# EAGLE library part LPC82XMX01JHI33 (library heck)
LPC824M201JHI33 - 32KB flash, 8KB SRAM LPC822M101JHI33 - 16KB flash, 4KB SRAM
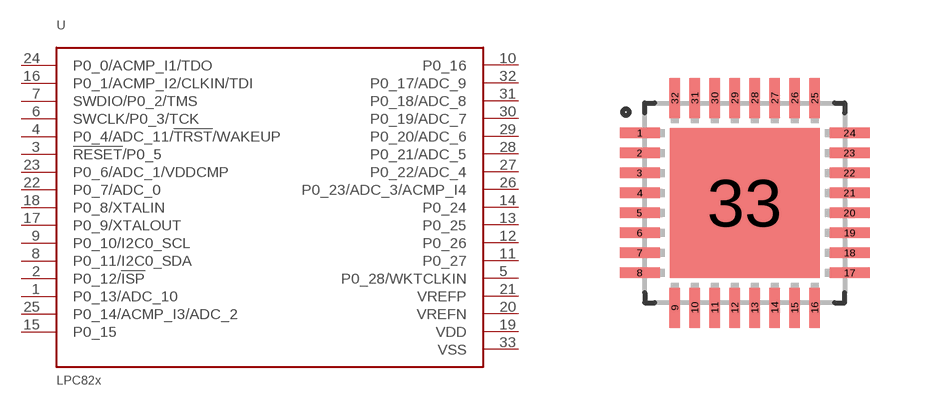
[diagram p18: symbol with the pads of QFN33; footprint QFN33]

Designator prefix U

## LPC82XMX01JHI33  [QFN33]
1  P0_13/ADC_10
2  P0_12/!ISP!
3  !RESET!/P0_5
4  P0_4/ADC_11/!TRST!/WAKEUP
5  P0_28/WKTCLKIN
6  SWCLK/P0_3/TCK
7  SWDIO/P0_2/TMS
8  P0_11/I2C0_SDA
9  P0_10/I2C0_SCL
10  P0_16
11  P0_27
12  P0_26
13  P0_25
14  P0_24
15  P0_15
16  P0_1/ACMP_I2/CLKIN/TDI
17  P0_9/XTALOUT
18  P0_8/XTALIN
19  VDD  pwr
20  VREFN  pwr
21  VREFP  pwr
22  P0_7/ADC_0
23  P0_6/ADC_1/VDDCMP
24  P0_0/ACMP_I1/TDO
25  P0_14/ACMP_I3/ADC_2
26  P0_23/ADC_3/ACMP_I4
27  P0_22/ADC_4
28  P0_21/ADC_5
29  P0_20/ADC_6
30  P0_19/ADC_7
31  P0_18/ADC_8
32  P0_17/ADC_9
33  VSS  pwr

## Footprint QFN33 (pad centres in mm)
smd 1 x 0.27: 1 -2.625,1.75; 2 -2.625,1.25; 3 -2.625,0.75; 4 -2.625,0.25; 5 -2.625,-0.25; 6 -2.625,-0.75; 7 -2.625,-1.25; 8 -2.625,-1.75; 17 2.625,-1.75; 18 2.625,-1.25; 19 2.625,-0.75; 20 2.625,-0.25; 21 2.625,0.25; 22 2.625,0.75; 23 2.625,1.25; 24 2.625,1.75
smd 0.27 x 1: 9 -1.75,-2.625; 10 -1.25,-2.625; 11 -0.75,-2.625; 12 -0.25,-2.625; 13 0.25,-2.625; 14 0.75,-2.625; 15 1.25,-2.625; 16 1.75,-2.625; 25 1.75,2.625; 26 1.25,2.625; 27 0.75,2.625; 28 0.25,2.625; 29 -0.25,2.625; 30 -0.75,2.625; 31 -1.25,2.625; 32 -1.75,2.625
smd 3.75 x 3.75: 33 0,0